# EAGLE library part FH15 (library con-vg)
CONNECTOR female, 15 pins, type H, rows DZ
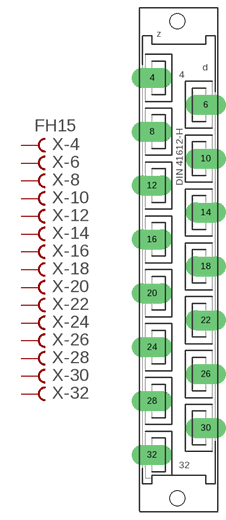
[diagram p68: symbol with the pads of FH15; footprint FH15]

Designator prefix X; gates -4=FVAL -6=FEM -8=FEM -10=FEM -12=FEM -14=FEM -16=FEM -18=FEM -20=FEM -22=FEM -24=FEM -26=FEM -28=FEM -30=FEM -32=FEM

## FH15  [FH15]
4  -4:B  pas
6  -6:B  pas
8  -8:B  pas
10  -10:B  pas
12  -12:B  pas
14  -14:B  pas
16  -16:B  pas
18  -18:B  pas
20  -20:B  pas
22  -22:B  pas
24  -24:B  pas
26  -26:B  pas
28  -28:B  pas
30  -30:B  pas
32  -32:B  pas

## Footprint FH15 (pad centres in mm)
CONNECTOR female, 15 pins, type H, rows DZ
drill 1.676 pad 3.81 long: 4 -5.08,34.315; 6 5.08,29.235; 8 -5.08,24.155; 10 5.08,19.075; 12 -5.08,13.995; 14 5.08,8.915; 16 -5.08,3.835; 18 5.08,-1.245; 20 -5.08,-6.325; 22 5.08,-11.405; 24 -5.08,-16.485; 26 5.08,-21.565; 28 -5.08,-26.645; 30 5.08,-31.725; 32 -5.08,-36.805
hole 2.794 at -0.305,44.983
hole 2.794 at -0.305,-44.983